# Altium footprint library TSR-0-5-2450.PcbLib: 1 footprints
Each footprint in its own frame and in the unit in brackets; x right, y up, seen from the top. Pads: shape width x height; smd on the part's side, far side on the other; paste and mask are expansions set on the pad; w line width, h text height; cw(c..) or ccw(c..) is an arc to the next point about the centre after c.
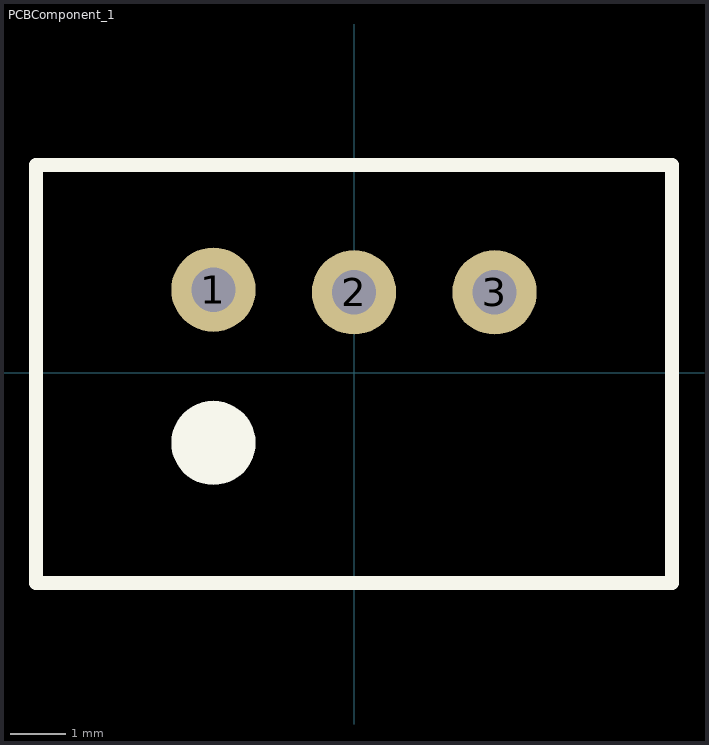
[diagram p0: the footprint, top view; thin cyan lines are the x and y axes]

## PCBComponent_1 [mil]
pads (4):
  round 60 hole 31.5: 1(-100,59) 2(0,57.09) 3(100,57.09)
  round 60 on Top Overlay: ""(-100,-50)
Top Overlay:
  lines w10: -226.38,-149.61 226.38,-149.61 226.38,147.64 -226.38,147.64 -226.38,-149.61
3D body "tsr0_5_3d_drawing.stp": height 400, standoff -162.99, extent -226.38,-148.62 226.38,148.62